# Altium footprint library FC_Components.PcbLib: 2 footprints
Each footprint in its own frame and in the unit in brackets; x right, y up, seen from the top. Pads: shape width x height; smd on the part's side, far side on the other; paste and mask are expansions set on the pad; w line width, h text height; cw(c..) or ccw(c..) is an arc to the next point about the centre after c.
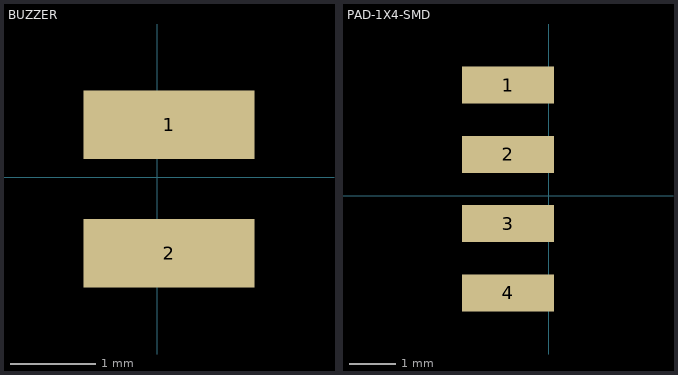
[diagram p0: the footprints below, top view; thin cyan lines are the x and y axes]

## BUZZER [mm]
pads (2):
  rect 2x0.8 smd: 1(0.135,0.614) 2(0.135,-0.886)

## PAD-1X4-SMD [mm]
pads (4):
  rect 2x0.8 smd: 1(-0.881,2.392) 2(-0.881,0.892) 3(-0.881,-0.608) 4(-0.881,-2.108)